# EAGLE library part LPC810 (library Parts)
ＡＲＭ Ｃｏｒｔｅｘ－Ｍ０搭載 低消費・高性能３２ｂｉｔマイコン ・３０ＭＨｚクロックスピード（最大） ・Ｆｌａｓｈ：４ＫＢ ・ＲＡＭ：１ＫＢ ・ＲＣオシレータ：１２ＭＨｚ、１％精度 ・ＵＡＲＴ（ＲＳ－４８５） ・ＳＳＰ／ＳＰＩ ・Ｉ２Ｃ（Ｆｍ＋） ・各種タイマー ・ＧＰＩＯ：６本
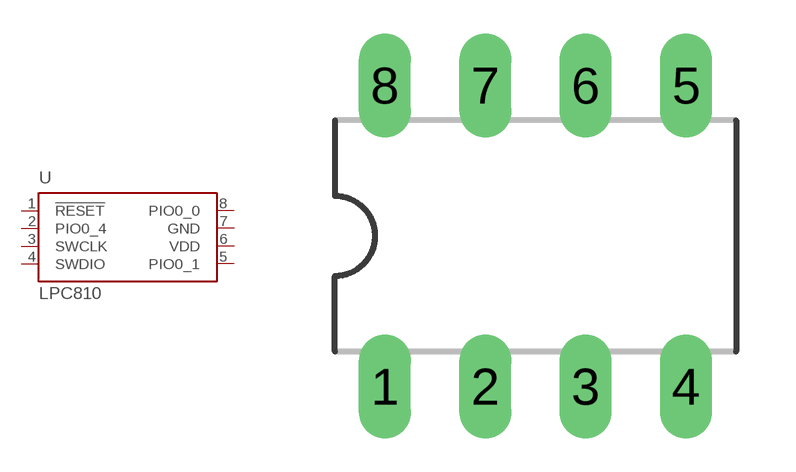
[diagram p11: symbol with the pads of DIL08; footprint DIL08]

Designator prefix U

## LPC810M021FN8  [DIL08]
1  !RESET!
2  PIO0_4
3  SWCLK
4  SWDIO
5  PIO0_1
6  VDD  pas
7  GND  pas
8  PIO0_0

## Footprint DIL08 (pad centres in mm)
Dual In Line Package
drill 0.813 long: 1 -3.81,-3.81; 2 -1.27,-3.81; 3 1.27,-3.81; 4 3.81,-3.81; 5 3.81,3.81; 6 1.27,3.81; 7 -1.27,3.81; 8 -3.81,3.81